# EAGLE library part P260_1+S (library pot-tt_electronics)
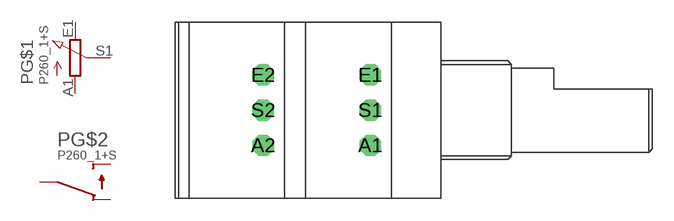
[diagram p16: symbol with the pads of P260_2; footprint P260_2]

Designator prefix P; gates G$1=POT_EU- G$2=SW2

## P260_1+S  [P260_2]
A1  G$1:A  pas
A2  G$2:SW_A  pas
E1  G$1:E  pas
E2  G$2:SW_E  pas
S1  G$1:S  pas
S2  G$2:_C  pas

## Footprint P260_2 (pad centres in mm)
drill 1 octagon: A1 -5,-2.5; A2 -12.6,-2.5; E1 -5,2.5; E2 -12.6,2.5; S1 -5,0; S2 -12.6,0